# Altium footprint library PhotoMatrix.PcbLib: 2 footprints
Each footprint in its own frame and in the unit in brackets; x right, y up, seen from the top. Pads: shape width x height; smd on the part's side, far side on the other; paste and mask are expansions set on the pad; w line width, h text height; cw(c..) or ccw(c..) is an arc to the next point about the centre after c.
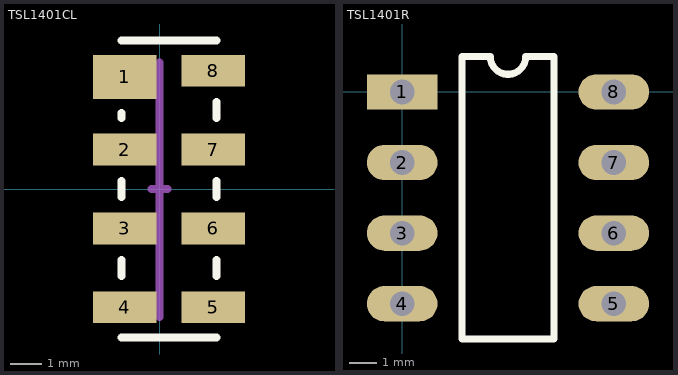
[diagram p0: the footprints below, top view; thin cyan lines are the x and y axes]

## TSL1401CL [mm]
height 1.4
pads (8):
  rect 2x1.4 smd: 1(-1.1,3.55)
  rect 2x1 smd: 2(-1.1,1.25) 3(-1.1,-1.25) 4(-1.1,-3.75) 5(1.7,-3.75) 6(1.7,-1.25) 7(1.7,1.25) 8(1.7,3.75)
Top Overlay:
  lines w0.254: -1.2,-4.7 1.8,-4.7 ; -1.2,-2.75 -1.2,-2.25 ; -1.2,-0.25 -1.2,0.25 ; -1.2,2.25 -1.2,2.4 ; -1.2,4.7 1.8,4.7 ; 1.8,-2.75 1.8,-2.25 ; 1.8,-0.25 1.8,0.25 ; 1.8,2.25 1.8,2.75
Mechanical 1:
  lines w0.254: -0.25,0 0.25,0 ; 0,-4.05 0,4
3D body: height 1.2, standoff 0, extent -1.2,-4.7 1.8,4.7

## TSL1401R [mil]
height 175
pads (8):
  rect 100x50 hole 35: 1(0,0)
  oval 100x50 hole 35: 2(0,-100) 3(0,-200) 4(0,-300) 5(300,-300) 6(300,-200) 7(300,-100) 8(300,0)
Top Overlay:
  lines w10: 85,-350 85,50 125,50 ccw(c150,50) 175,50 215,50 215,-350 85,-350
3D body: height 125, standoff -74.22, extent -5,-359.43 308.78,69.43